# Altium schematic symbol library Diodes.SchLib: 13 symbols
Pins are listed as number, name and electrical type; pins without a type are passive.

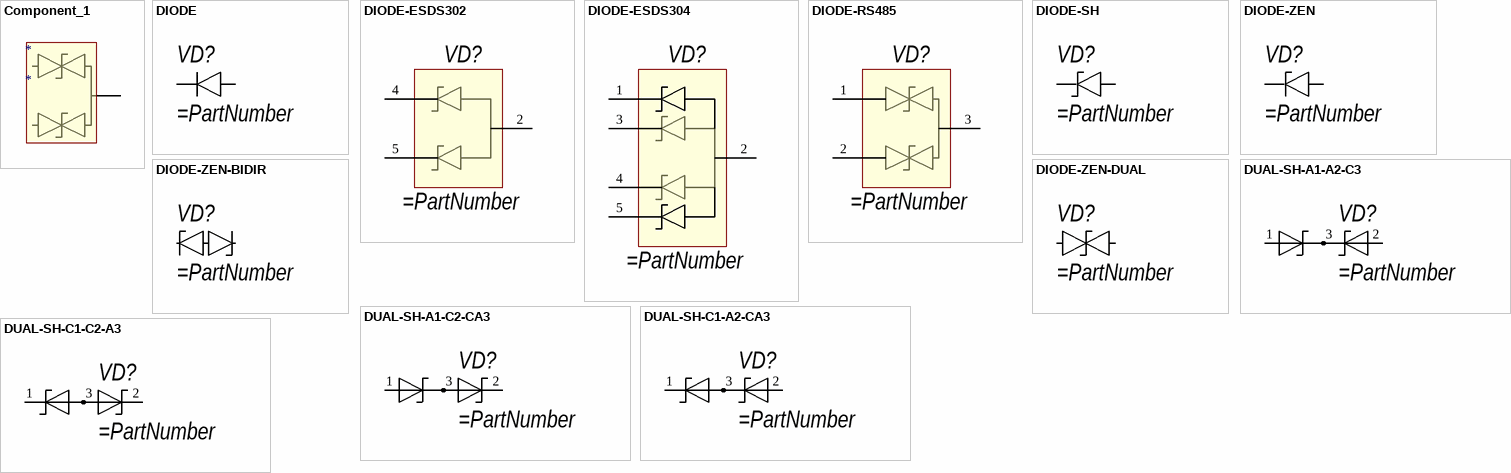
[diagram p0: symbols Component_1 to DUAL-SH-C1-C2-A3]

## Component_1
designator *
pins: A, C, C

## DIODE
designator VD?
pins: A, C

## DIODE-ESDS302
designator VD?
pins: 2, 4, 5

## DIODE-ESDS304
designator VD?
pins: 1, 2, 3, 4, 5

## DIODE-RS485
designator VD?
pins: 1, 2, 3

## DIODE-SH
designator VD?
pins: A, C

## DIODE-ZEN
designator VD?
pins: A, C

## DIODE-ZEN-BIDIR
designator VD?
pins: A, C

## DIODE-ZEN-DUAL
designator VD?
pins: A, C

## DUAL-SH-A1-A2-C3
designator VD?
pins: 1, 2, 3

## DUAL-SH-A1-C2-CA3
designator VD?
pins: 1, 2, 3

## DUAL-SH-C1-A2-CA3
designator VD?
pins: 1, 2, 3

## DUAL-SH-C1-C2-A3
designator VD?
pins: 1, 2, 3